# EAGLE library part LCD-JHD754FW-(30P-52X25.5MM) (library Seeed-OPL-Display)
308010000
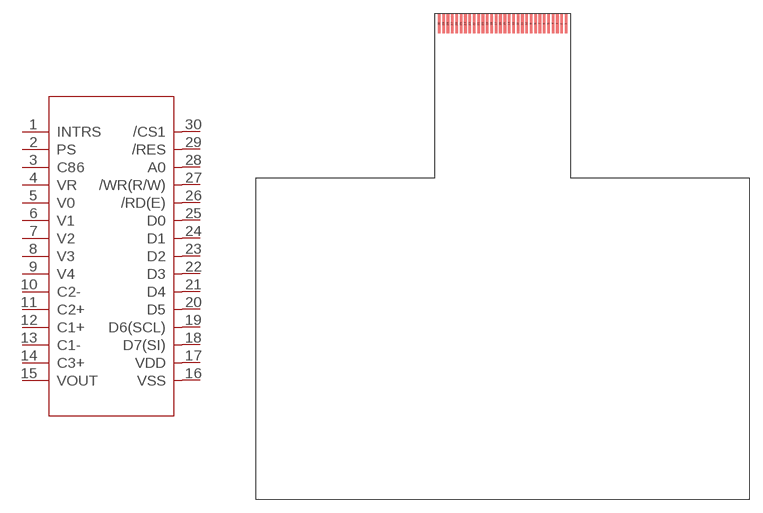
[diagram p5: symbol with the pads of LCD30P-SMD-0.5-JHD754FW; footprint LCD30P-SMD-0.5-JHD754FW]

Designator prefix LCD

## LCD-JHD754FW-(30P-52X25.5MM) (MPN: JHD754FW; VALUE: 30P 52X25.5MM)  [LCD30P-SMD-0.5-JHD754FW]
1  INTRS
2  PS  sup
3  C86  sup
4  VR  sup
5  V0  sup
6  V1  nc
7  V2
8  V3
9  V4
10  C2-
11  C2+
12  C1+
13  C1-
14  C3+
15  VOUT  in
16  VSS  in
17  VDD  in
18  D7(SI)  in
19  D6(SCL)  in
20  D5  in
21  D4  in
22  D3  in
23  D2
24  D1
25  D0  nc
26  /RD(E)  sup
27  /WR(R/W)  sup
28  A0  sup
29  /RES
30  /CS1

## Footprint LCD30P-SMD-0.5-JHD754FW (pad centres in mm)
smd 0.3 x 2.2: 1 7.25,0; 2 6.75,0; 3 6.25,0; 4 5.75,0; 5 5.25,0; 6 4.75,0; 7 4.25,0; 8 3.75,0; 9 3.25,0; 10 2.75,0; 11 2.25,0; 12 1.75,0; 13 1.25,0; 14 0.75,0; 15 0.25,0; 16 -0.25,0; 17 -0.75,0; 18 -1.25,0; 19 -1.75,0; 20 -2.25,0; 21 -2.75,0; 22 -3.25,0; 23 -3.75,0; 24 -4.25,0; 25 -4.75,0; 26 -5.25,0; 27 -5.75,0; 28 -6.25,0; 29 -6.75,0; 30 -7.25,0